# Altium footprint library LC29H.PcbLib: 1 footprints
Each footprint in its own frame and in the unit in brackets; x right, y up, seen from the top. Pads: shape width x height; smd on the part's side, far side on the other; paste and mask are expansions set on the pad; w line width, h text height; cw(c..) or ccw(c..) is an arc to the next point about the centre after c.
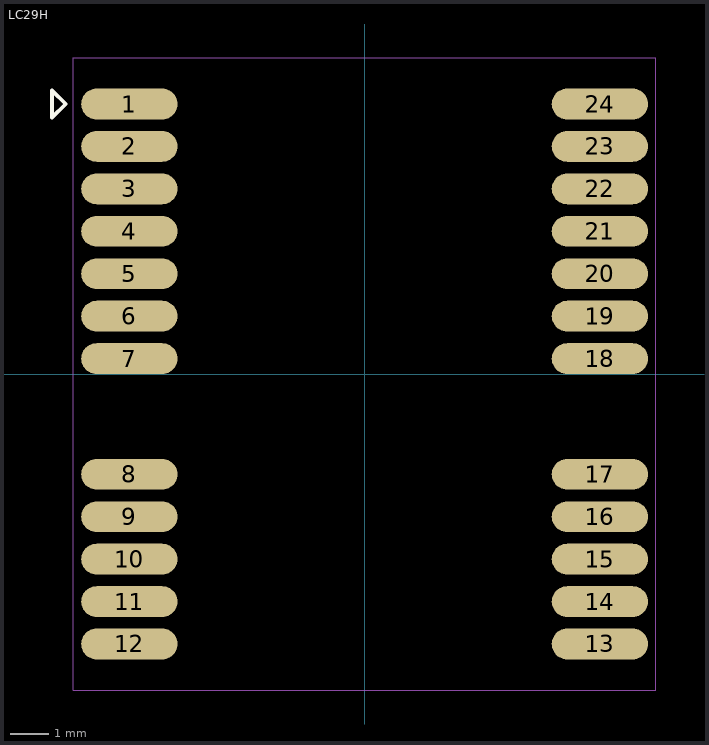
[diagram p0: the footprint, top view; thin cyan lines are the x and y axes]

## LC29H [mm]
pads (24):
  oval 2.5x0.8 smd mask+0.05: 1(-6.1,7) 2(-6.1,5.9) 3(-6.1,4.8) 4(-6.1,3.7) 5(-6.1,2.6) 6(-6.1,1.5) 7(-6.1,0.4) 8(-6.1,-2.6) 9(-6.1,-3.7) 10(-6.1,-4.8) 11(-6.1,-5.9) 12(-6.1,-7) 13(6.1,-7) 14(6.1,-5.9) 15(6.1,-4.8) 16(6.1,-3.7) 17(6.1,-2.6) 18(6.1,0.4) 19(6.1,1.5) 20(6.1,2.6) 21(6.1,3.7) 22(6.1,4.8) 23(6.1,5.9) 24(6.1,7)
Top Overlay:
  lines w0.1: -8.103,6.647 -8.103,7.354 -7.75,7 -8.103,6.647
Mechanical 5:
  lines w0.01: -7.55,-8.2 7.55,-8.2 7.55,8.2 -7.55,8.2 -7.55,-8.2
3D body: height 2.7, standoff 0, extent -6.1,-8 6.1,8